# Altium footprint library PCB - LEADED - SOP - TI SOP-16 PWP0016J.PcbLib: 1 footprints
Each footprint in its own frame and in the unit in brackets; x right, y up, seen from the top. Pads: shape width x height; smd on the part's side, far side on the other; paste and mask are expansions set on the pad; w line width, h text height; cw(c..) or ccw(c..) is an arc to the next point about the centre after c.
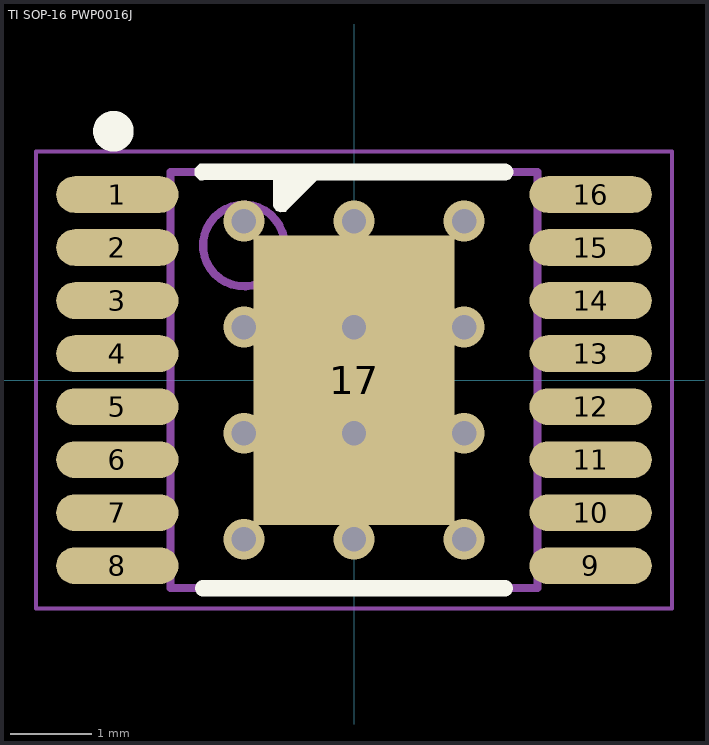
[diagram p0: the footprint, top view; thin cyan lines are the x and y axes]

## TI SOP-16 PWP0016J [mm] "TSOP, 16-Leads, Body 5.00x4.40mm, Pitch 0.65mm, Thermal Pad 3.55x2.46mm, IPC Medium Density"
height 1.2
pads (17):
  oval 1.5x0.45 smd: 1(-2.9,2.275) 2(-2.9,1.625) 3(-2.9,0.975) 4(-2.9,0.325) 5(-2.9,-0.325) 6(-2.9,-0.975) 7(-2.9,-1.625) 8(-2.9,-2.275) 9(2.9,-2.275) 10(2.9,-1.625) 11(2.9,-0.975) 12(2.9,-0.325) 13(2.9,0.325) 14(2.9,0.975) 15(2.9,1.625) 16(2.9,2.275)
  rect 2.46x3.55 smd: 17(0,0)
via -1.35,-1.95 diameter 0.5 hole 0.3
via 0,-1.95 diameter 0.5 hole 0.3
via 1.35,-1.95 diameter 0.5 hole 0.3
via -1.35,1.95 diameter 0.5 hole 0.3
via 0,1.95 diameter 0.5 hole 0.3
via 1.35,1.95 diameter 0.5 hole 0.3
via 1.35,-0.65 diameter 0.5 hole 0.3
via 0,-0.65 diameter 0.5 hole 0.3
via -1.35,-0.65 diameter 0.5 hole 0.3
via 1.35,0.65 diameter 0.5 hole 0.3
via 0,0.65 diameter 0.5 hole 0.3
via -1.35,0.65 diameter 0.5 hole 0.3
Top Overlay:
  circle w0.25: c-2.95,3.05 r0.125
  region: -1.85,2.45 -0.989,2.45 -0.989,2.159 -0.989,2.129 -0.956,2.078 -0.899,2.055 -0.84,2.066 -0.818,2.088 -0.456,2.45 1.85,2.45 1.87,2.45 1.907,2.465 1.935,2.493 1.95,2.53 1.95,2.55 1.95,2.57 1.935,2.607 1.907,2.635 1.87,2.65 1.85,2.65 -1.85,2.65 -1.892,2.65 -1.95,2.592 -1.95,2.508 -1.892,2.45
  lines w0.2: -1.85,-2.55 1.85,-2.55 ; -1.85,2.55 1.85,2.55 ; -0.889,2.54 -0.889,2.159 -0.508,2.54
Mechanical 13:
  circle w0.1: c-1.35,1.65 r0.5
  lines w0.1: -2.25,-2.55 -2.25,2.55 2.25,2.55 2.25,-2.55 -2.25,-2.55
Mechanical 15:
  lines w0.05: -3.9,-2.8 -3.9,2.8 3.9,2.8 3.9,-2.8 -3.9,-2.8
  lines w0.1: -0.5,0 0.5,0 ; 0,-0.5 0,0.5
3D body: height 1.13, standoff 0, extent -3.2,-2.5 3.2,2.5